# Altium footprint library PCD-lib.PcbLib: 3 footprints
Each footprint in its own frame and in the unit in brackets; x right, y up, seen from the top. Pads: shape width x height; smd on the part's side, far side on the other; paste and mask are expansions set on the pad; w line width, h text height; cw(c..) or ccw(c..) is an arc to the next point about the centre after c.
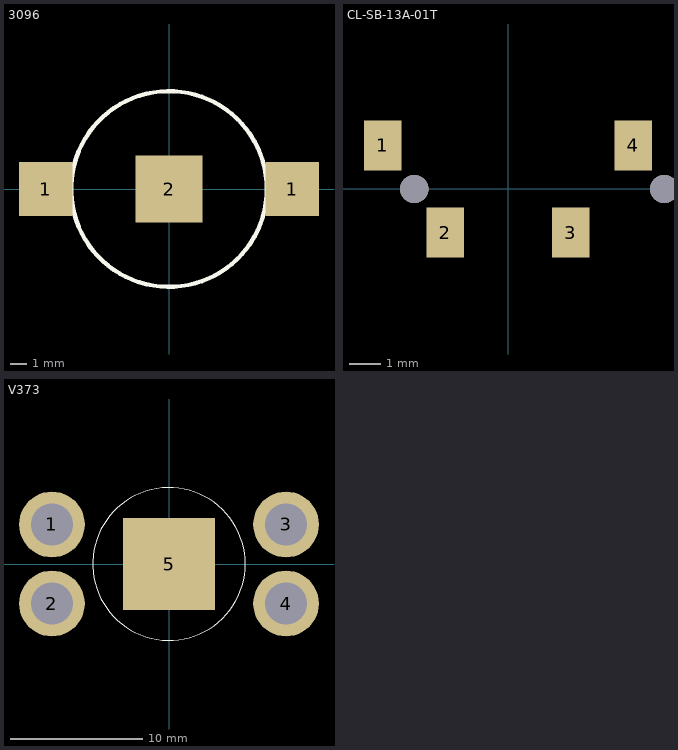
[diagram p0: the footprints below, top view; thin cyan lines are the x and y axes]

## 3096 [mil] "LR44"
pads (3):
  rect 125x125 smd: 1(-287.5,0) 1(287.5,0)
  rect 156x156 smd: 2(0,0)
Top Overlay:
  circle w10: c0,0 r228.35
3D body "keystone-PN3096.STEP": height 235, standoff 0, extent -350,-265 350,210
3D body "LR44.SLDPRT": height 210, standoff 1.34, extent -228.35,-228.35 228.35,228.35

## CL-SB-13A-01T [mm]
pads (4):
  rect 1.2x1.6 smd: 1(-4,1.397) 2(-2,-1.4) 3(2,-1.4) 4(4,1.397)
via 5,0 diameter 0.9 hole 0.9
via -3,0 diameter 0.9 hole 0.9
3D body "CL-SB-13A-01T.stp": height 5.51, standoff -0.79, extent -6,-1.75 6,1.75

## V373 [mm] "V373"
pads (5):
  round 5 hole 3.2: 1(-8.89,3) 2(-8.89,-3) 3(8.89,3) 4(8.89,-3)
  rect 7x7 smd: 5(0,0)
Top Overlay:
  circle w0.051: c0,0 r5.8